# EAGLE library part KRE-8P (library Conectores KRE)
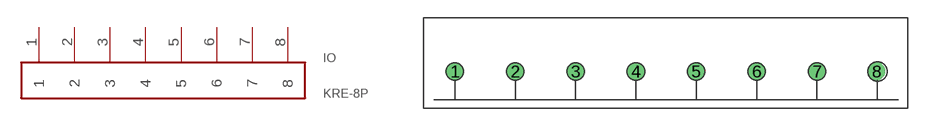
[diagram p0: symbol with the pads of KRE-8P; footprint KRE-8P]

Designator prefix IO

## KRE-8P  [KRE-8P]
1  1
2  2
3  3
4  4
5  5
6  6
7  7
8  8

## Footprint KRE-8P (pad centres in mm)
Conector KRE 8 Pinos Largura: 7.6MM Comprimento: 40MM Altura: 10MM Distância entre pinos: 5.06MM
drill 1 pad 1.422: 1 -17.78,0; 2 -12.7,0; 3 -7.62,0; 4 -2.54,0; 5 2.54,0; 6 7.62,0
drill 1: 7 12.7,0; 8 17.7,0